# Altium footprint library PCB - CONNECTOR - TE - TE 5413631-1.PCBLIB: 1 footprints
Each footprint in its own frame and in the unit in brackets; x right, y up, seen from the top. Pads: shape width x height; smd on the part's side, far side on the other; paste and mask are expansions set on the pad; w line width, h text height; cw(c..) or ccw(c..) is an arc to the next point about the centre after c.
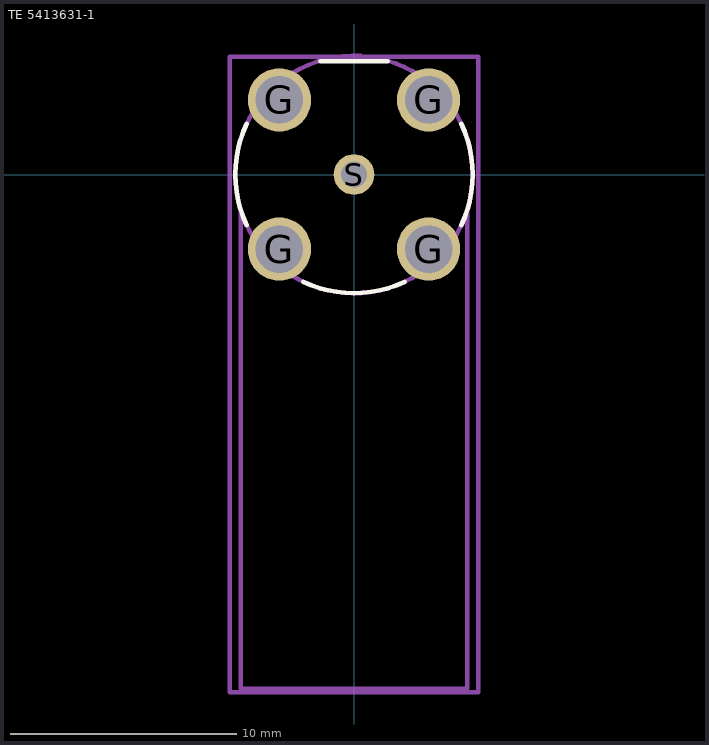
[diagram p0: the footprint, top view; thin cyan lines are the x and y axes]

## TE 5413631-1 [mm] "CONN BNC JACK R/A 50 OHM PCB"
height 10.97
pads (5):
  round 2.8 hole 2.11: G(-3.3,-3.3) G(-3.3,3.3) G(3.3,-3.3) G(3.3,3.3)
  round 1.8 hole 1.17: S(0,0)
Top Overlay:
  lines w0.2: -4.745,-2.247 cw(c0,0) -4.745,2.247 ; -2.247,-4.745 ccw(c0,0) 2.247,-4.745 ; -1.5,5 1.5,5 ; 4.745,-2.247 ccw(c0,0) 4.745,2.247
Top Assembly:
  circle w0.2: c0,0 r5.25
  lines w0.2: -5,-1.601 -5,-22.75 5,-22.75 5,-1.6 ; -0.5,0 0.5,0 ; 0,-0.5 0,0.5
Top Courtyard (Mech15):
  lines w0.2: -5.5,-22.9 5.5,-22.9 5.5,5.2 -5.5,5.2 -5.5,-22.9
3D body "TE 5413631-1.step": height 11.66, standoff -4.34, extent -5.258,-22.631 5.258,5.004